# Altium footprint library PCA9632DP2,118.PcbLib: 3 footprints
Each footprint in its own frame and in the unit in brackets; x right, y up, seen from the top. Pads: shape width x height; smd on the part's side, far side on the other; paste and mask are expansions set on the pad; w line width, h text height; cw(c..) or ccw(c..) is an arc to the next point about the centre after c.
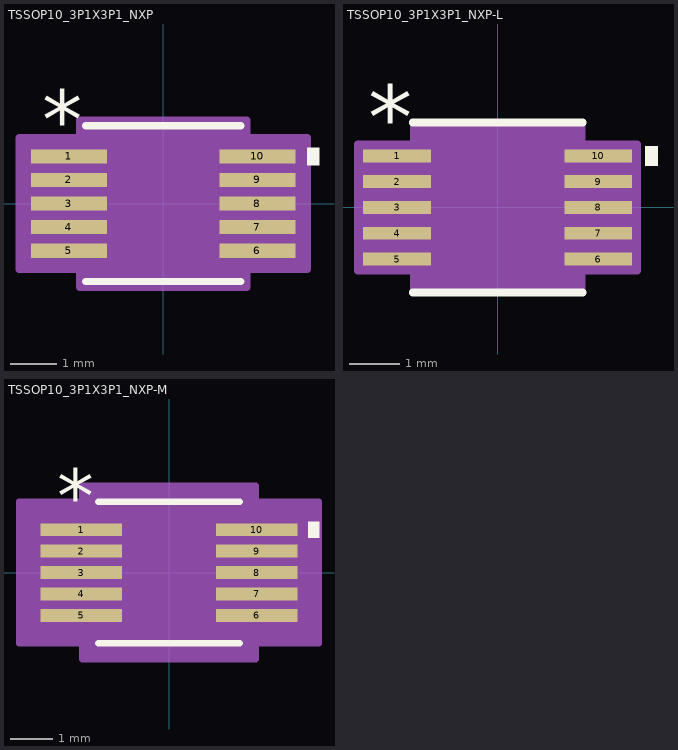
[diagram p0: the footprints below, top view; thin cyan lines are the x and y axes]

## TSSOP10_3P1X3P1_NXP [mil]
pads (10):
  rect 64.56x12 smd paste+0 mask+0: 1(-80,40) 2(-80,20) 3(-80,0) 4(-80,-20) 5(-80,-40) 6(80,-40) 7(80,-20) 8(80,0) 9(80,20) 10(80,40)
Top Overlay:
  region: 122.28,47.5 132.28,47.5 132.28,32.5 122.28,32.5
  lines w6: -66,-66 66,-66 ; -66,66 66,66
  text ".Designator" at -137.5,-25 h50
  text "*" at -102.5,47 h50
Mechanical 13:
  lines w1: -12,61 ccw(c0,61) 12,61 ; -98.5,-46 -98.5,-34 -61,-34 -61,-46 -98.5,-46 ; -98.5,-26 -98.5,-14 -61,-14 -61,-26 -98.5,-26 ; -98.5,-6 -98.5,6 -61,6 -61,-6 -98.5,-6 ; -98.5,14 -98.5,26 -61,26 -61,14 -98.5,14 ; -98.5,34 -98.5,46 -61,46 -61,34 -98.5,34 ; -61,-61 61,-61 61,61 -61,61 -61,-61 ; 61,-46 61,-34 98.5,-34 98.5,-46 61,-46 ; 61,-26 61,-14 98.5,-14 98.5,-26 61,-26 ; 61,-6 61,6 98.5,6 98.5,-6 61,-6 ; 61,14 61,26 98.5,26 98.5,14 61,14 ; 61,34 61,46 98.5,46 98.5,34 61,34
  text "*" at -58.5,8 h50
  text ".Designator" at -137.5,-25 h50
Mechanical 15:
  region: -71,-56 -122.28,-56 -122.28,56 -71,56 -71,71 71,71 71,56 122.28,56 122.28,-56 71,-56 71,-71 -71,-71
  lines w6: -122.28,-56 -122.28,56 -71,56 -71,71 71,71 71,56 122.28,56 122.28,-56 71,-56 71,-71 -71,-71 -71,-56 -122.28,-56
3D body "TSSOP10_3P1X3P1_NXP.step": height 43.11, standoff 0, extent -98.5,-60.98 98.5,60.98

## TSSOP10_3P1X3P1_NXP-L [mil]
pads (10):
  rect 52.75x10.03 smd paste+0 mask+0: 1(-78.03,40) 2(-78.03,20) 3(-78.03,0) 4(-78.03,-20) 5(-78.03,-40) 6(78.03,-40) 7(78.03,-20) 8(78.03,0) 9(78.03,20) 10(78.03,40)
Top Overlay:
  region: 114.41,47.5 124.41,47.5 124.41,32.5 114.41,32.5
  lines w6: -66,-66 66,-66 ; -66,66 66,66
  text ".Designator" at -137.5,-25 h50
  text "*" at -100.53,45.03 h50
Mechanical 13:
  lines w1: -12,61 ccw(c0,61) 12,61 ; -98.5,-46 -98.5,-34 -61,-34 -61,-46 -98.5,-46 ; -98.5,-26 -98.5,-14 -61,-14 -61,-26 -98.5,-26 ; -98.5,-6 -98.5,6 -61,6 -61,-6 -98.5,-6 ; -98.5,14 -98.5,26 -61,26 -61,14 -98.5,14 ; -98.5,34 -98.5,46 -61,46 -61,34 -98.5,34 ; -61,-61 61,-61 61,61 -61,61 -61,-61 ; 61,-46 61,-34 98.5,-34 98.5,-46 61,-46 ; 61,-26 61,-14 98.5,-14 98.5,-26 61,-26 ; 61,-6 61,6 98.5,6 98.5,-6 61,-6 ; 61,14 61,26 98.5,26 98.5,14 61,14 ; 61,34 61,46 98.5,46 98.5,34 61,34
  text "*" at -58.5,8 h50
  text ".Designator" at -137.5,-25 h50
Mechanical 15:
  region: -65,-49.02 -108.41,-49.02 -108.41,49.02 -65,49.02 -65,65 65,65 65,49.02 108.41,49.02 108.41,-49.02 65,-49.02 65,-65 -65,-65
  lines w6: -108.41,-49.02 -108.41,49.02 -65,49.02 -65,65 65,65 65,49.02 108.41,49.02 108.41,-49.02 65,-49.02 65,-65 -65,-65 -65,-49.02 -108.41,-49.02
3D body "TSSOP10_3P1X3P1_NXP.step": height 43.11, standoff 0, extent -98.5,-60.98 98.5,60.98

## TSSOP10_3P1X3P1_NXP-M [mil]
pads (10):
  rect 76.37x12 smd paste+0 mask+0: 1(-81.97,40) 2(-81.97,20) 3(-81.97,0) 4(-81.97,-20) 5(-81.97,-40) 6(81.97,-40) 7(81.97,-20) 8(81.97,0) 9(81.97,20) 10(81.97,40)
Top Overlay:
  region: 130.15,47.5 140.15,47.5 140.15,32.5 130.15,32.5
  lines w6: -66,-66 66,-66 ; -66,66 66,66
  text ".Designator" at -137.5,-25 h50
  text "*" at -104.47,47 h50
Mechanical 13:
  lines w1: -12,61 ccw(c0,61) 12,61 ; -98.5,-46 -98.5,-34 -61,-34 -61,-46 -98.5,-46 ; -98.5,-26 -98.5,-14 -61,-14 -61,-26 -98.5,-26 ; -98.5,-6 -98.5,6 -61,6 -61,-6 -98.5,-6 ; -98.5,14 -98.5,26 -61,26 -61,14 -98.5,14 ; -98.5,34 -98.5,46 -61,46 -61,34 -98.5,34 ; -61,-61 61,-61 61,61 -61,61 -61,-61 ; 61,-46 61,-34 98.5,-34 98.5,-46 61,-46 ; 61,-26 61,-14 98.5,-14 98.5,-26 61,-26 ; 61,-6 61,6 98.5,6 98.5,-6 61,-6 ; 61,14 61,26 98.5,26 98.5,14 61,14 ; 61,34 61,46 98.5,46 98.5,34 61,34
  text "*" at -58.5,8 h50
  text ".Designator" at -137.5,-25 h50
Mechanical 15:
  region: -81,-66 -140.15,-66 -140.15,66 -81,66 -81,81 81,81 81,66 140.15,66 140.15,-66 81,-66 81,-81 -81,-81
  lines w6: -140.15,-66 -140.15,66 -81,66 -81,81 81,81 81,66 140.15,66 140.15,-66 81,-66 81,-81 -81,-81 -81,-66 -140.15,-66
3D body "TSSOP10_3P1X3P1_NXP.step": height 43.11, standoff 0, extent -98.5,-60.98 98.5,60.98